# EAGLE library part PINHD-2X06 (library pinhead-mm)
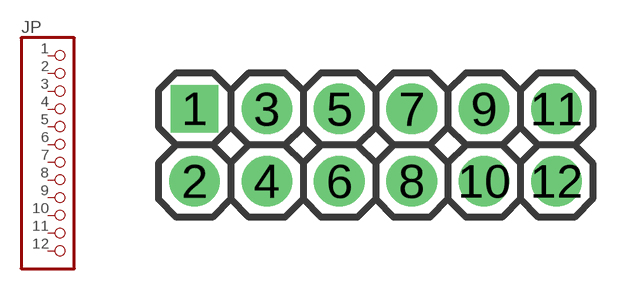
[diagram p7: symbol with the pads of 2X06; footprint 2X06]

Designator prefix JP

## PINHD-2X06  [2X06]
1  1  pas
2  2  pas
3  3  pas
4  4  pas
5  5  pas
6  6  pas
7  7  pas
8  8  pas
9  9  pas
10  10  pas
11  11  pas
12  12  pas

## Footprint 2X06 (pad centres in mm)
drill 1 pad 1.676 square: 1 -7.62,1.27
drill 1 pad 1.778: 2 -7.62,-1.27; 3 -5.08,1.27; 4 -5.08,-1.27; 5 -2.54,1.27; 6 -2.54,-1.27; 7 0,1.27; 8 0,-1.27; 9 2.54,1.27; 10 2.54,-1.27; 11 5.08,1.27; 12 5.08,-1.27